# EAGLE library part DS90LV048A (library ic-National)
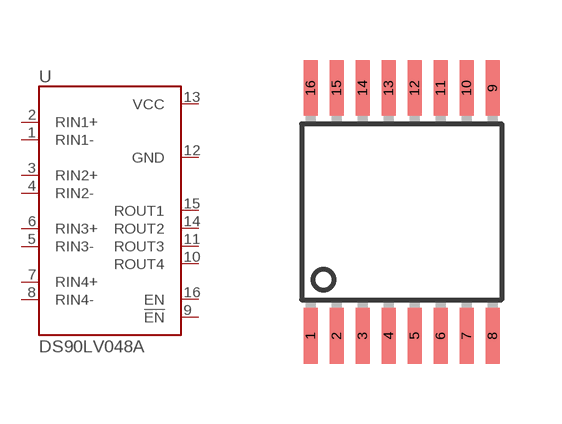
[diagram p0: symbol with the pads of TSSOP16; footprint TSSOP16]

Designator prefix U

## DS90LV048A  [TSSOP16]
1  RIN1-
2  RIN1+
3  RIN2+
4  RIN2-
5  RIN3-
6  RIN3+
7  RIN4+
8  RIN4-
9  !EN
10  ROUT4
11  ROUT3
12  GND
13  VCC
14  ROUT2
15  ROUT1
16  EN

## Footprint TSSOP16 (pad centres in mm)
smd 0.35 x 1.4: 1 -2.275,-3.1; 2 -1.625,-3.1; 3 -0.975,-3.1; 4 -0.325,-3.1; 5 0.325,-3.1; 6 0.975,-3.1; 7 1.625,-3.1; 8 2.275,-3.1; 9 2.275,3.1; 10 1.625,3.1; 11 0.975,3.1; 12 0.325,3.1; 13 -0.325,3.1; 14 -0.975,3.1; 15 -1.625,3.1; 16 -2.275,3.1